# Altium footprint library PCB - POWER INDUCTORS - BOURNS SRN3015.PCBLIB: 1 footprints
Each footprint in its own frame and in the unit in brackets; x right, y up, seen from the top. Pads: shape width x height; smd on the part's side, far side on the other; paste and mask are expansions set on the pad; w line width, h text height; cw(c..) or ccw(c..) is an arc to the next point about the centre after c.
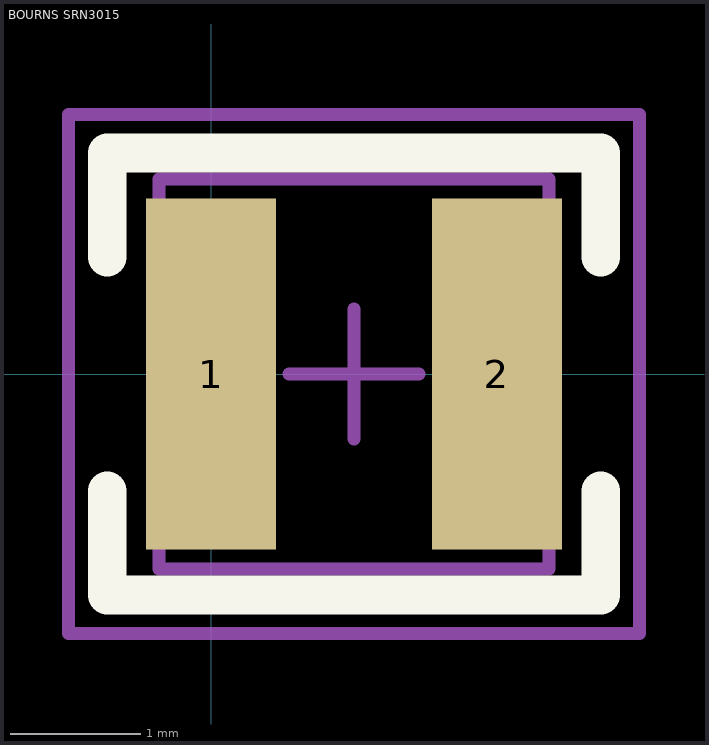
[diagram p0: the footprint, top view; thin cyan lines are the x and y axes]

## BOURNS SRN3015 [mm]
height 1.5
pads (2):
  rect 1x2.7 smd: 1(0,0) 2(2.2,0)
Top Overlay:
  lines w0.3: -0.8,-0.9 -0.8,-1.7 3,-1.7 3,-0.9 ; -0.8,0.9 -0.8,1.7 3,1.7 3,0.9
Mechanical 13:
  lines w0.1: -0.4,-1.5 -0.4,1.5 2.6,1.5 2.6,-1.5 -0.4,-1.5
Mechanical 15:
  lines w0.1: 0.6,0 1.6,0 ; 1.1,-0.5 1.1,0.5 ; -1.1,-2 3.3,-2 3.3,2 -1.1,2 -1.1,-2
3D body "Bourns SRN3015.stp": height 1.5, standoff 0, extent -0.4,-1.5 2.6,1.5